# EAGLE library part DF3-06S (library con-hirose)
Single row female connector 2mm 6 way
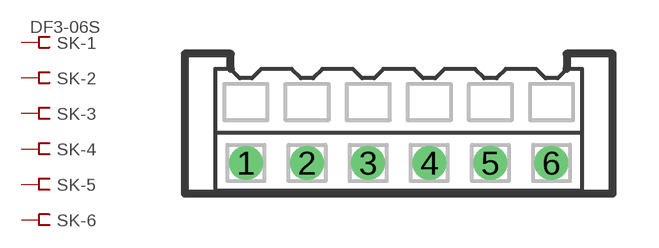
[diagram p0: symbol with the pads of DF3S-06; footprint DF3S-06]

Designator prefix SK; gates -1=FV -2=F -3=F -4=F -5=F -6=F

## DF3-06S  [DF3S-06]
1  -1:S  pas
2  -2:S  pas
3  -3:S  pas
4  -4:S  pas
5  -5:S  pas
6  -6:S  pas

## Footprint DF3S-06 (pad centres in mm)
Single row connector 2mm 6 way
drill 0.6 round: 1 -5,-1; 2 -3,-1; 3 -1,-1; 4 1,-1; 5 3,-1; 6 5,-1